# Altium schematic symbol library Buffer.SchLib: 2 symbols
Pins are listed as number, name and electrical type; pins without a type are passive.

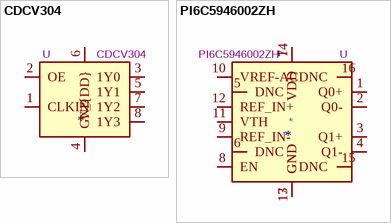
[diagram p0: symbols CDCV304 to PI6C5946002ZH]

## CDCV304
designator *  value CDCV304  Reference: U
0-200 MHz 1:4 Clock Buffer, PCI-X Compliant, TSSOP-8; ki_keywords: texas quadruple; ki_fp_filters: TSSOP*4.4x3mm*P0.65mm*; Footprint: Package_SO:TSSOP-8_4.4x3mm_P0.65mm; Datasheet: https://www.ti.com/lit/ds/symlink/cdcv304.pdf; Description_: 0-200 MHz 1:4 Clock Buffer, PCI-X Compliant, TSSOP-8
pins: 1 CLKIN, 2 OE, 3 1Y0, 4 GND, 5 1Y1, 6 V_{DD}, 7 1Y2, 8 1Y3

## PI6C5946002ZH
designator *  value PI6C5946002ZH  Reference: U
6 GHz / 12 Gbps Clock / Data 1:2 Fanout Buffer with Internal Termination, TQFN-16; ki_keywords: buffer clock data; ki_fp_filters: TQFN*1EP*3x3mm*P0.5mm*; Footprint: Package_DFN_QFN:TQFN-16-1EP_3x3mm_P0.5mm_EP1.6x1.6mm; Datasheet: https://www.diodes.com/assets/Datasheets/PI6C5946002.pdf; Description_: 6 GHz / 12 Gbps Clock / Data 1:2 Fanout Buffer with Internal Termination, TQFN-16
pins: 1 Q0+, 2 Q0-, 3 Q1+, 4 Q1-, 5 DNC, 6 DNC, 7 VDD, 8 EN, 9 REF_IN-, 10 VREF-AC, 11 VTH, 12 REF_IN+, 13 GND, 14 VDD, 15 DNC, 16 DNC, 17 GND